# Altium schematic symbol library Resistors.SchLib: 12 symbols
Pins are listed as number, name and electrical type; pins without a type are passive.

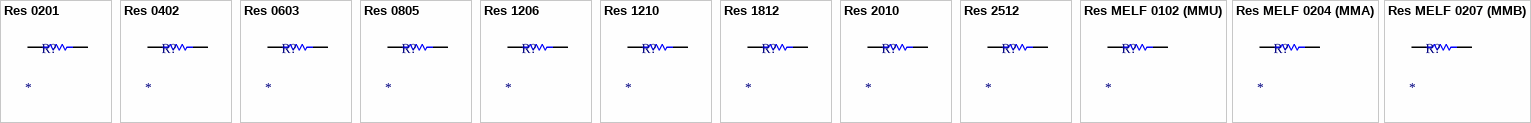
[diagram p0: symbols Res 0201 to Res MELF 0207 (MMB)]

## Res 0201
designator R?
Case-EIA: 0201; Case-Metric: 0603; Power: 0.05W; Technology: SMT; Value: *
footprint RES 0201 (0603) L (Chip Resistor, Body 0.6x0.3mm, IPC High Density)
footprint RES 0201 (0603) M (Chip Resistor, Body 0.6x0.3mm, IPC Low Density)
footprint RES 0201 (0603) N (Chip Resistor, Body 0.6x0.3mm, IPC Medium Density)
pins: 1, 2
1 alternate drawing of the same symbol

## Res 0402
designator R?
Case-EIA: 0402; Case-Metric: 1005; Power: 0.01W; Technology: SMT; Value: *
footprint RES 0402 (1005) L (Chip Resistor, Body 1.0x0.5mm, IPC High Density)
footprint RES 0402 (1005) M (Chip Resistor, Body 1.0x0.5mm, IPC Low Density)
footprint RES 0402 (1005) N (Chip Resistor, Body 1.0x0.5mm, IPC Medium Density)
pins: 1, 2
1 alternate drawing of the same symbol

## Res 0603
designator R?
Case-EIA: 0603; Case-Metric: 1608; Power: 0.1W; Technology: SMT; Value: *
footprint RES 0603 (1608) L (Chip Resistor, Body 1.6x0.8mm, IPC High Density)
footprint RES 0603 (1608) M (Chip Resistor, Body 1.6x0.8mm, IPC Low Density)
footprint RES 0603 (1608) N (Chip Resistor, Body 1.6x0.8mm, IPC Medium Density)
pins: 1, 2
1 alternate drawing of the same symbol

## Res 0805
designator R?
Case-EIA: 0805; Case-Metric: 2012; Power: 0.125W; Technology: SMT; Value: *
footprint RES 0805 (2012) N (Chip Resistor, Body 2.0x1.3mm, IPC Medium Density)
footprint RES 0805 (2012) M (Chip Resistor, Body 2.0x1.3mm, IPC Low Density)
footprint RES 0805 (2012) L (Chip Resistor, Body 2.0x1.3mm, IPC High Density)
pins: 1, 2
1 alternate drawing of the same symbol

## Res 1206
designator R?
Case-EIA: 1206; Case-Metric: 3216; Power: 0.25W; Technology: SMT; Value: *
footprint RES 1206 (3216) L (Chip Resistor, Body 3.2x1.6mm, IPC High Density)
footprint RES 1206 (3216) M (Chip Resistor, Body 3.2x1.6mm, IPC Low Density)
footprint RES 1206 (3216) N (Chip Resistor, Body 3.2x1.6mm, IPC Medium Density)
pins: 1, 2
1 alternate drawing of the same symbol

## Res 1210
designator R?
Case-EIA: 1210; Case-Metric: 3225; Power: 0.5W; Technology: SMT; Value: *
footprint RES 1210 (3225) L (Chip Resistor, Body 3.2x2.5mm, IPC High Density)
footprint RES 1210 (3225) M (Chip Resistor, Body 3.2x2.5mm, IPC Low Density)
footprint RES 1210 (3225) N (Chip Resistor, Body 3.2x2.5mm, IPC Medium Density)
pins: 1, 2
1 alternate drawing of the same symbol

## Res 1812
designator R?
Case-EIA: 1812; Case-Metric: 4532; Power: 0.75W; Technology: SMT; Value: *
footprint RES 1812 (4532) L (Chip Resistor, Body 4.5x3.2mm, IPC High Density)
footprint RES 1812 (4532) M (Chip Resistor, Body 4.5x3.2mm, IPC Low Density)
footprint RES 1812 (4532) N (Chip Resistor, Body 4.5x3.2mm, IPC Medium Density)
pins: 1, 2
1 alternate drawing of the same symbol

## Res 2010
designator R?
Case-EIA: 2010; Case-Metric: 5025; Power: 0.75W; Technology: SMT; Value: *
footprint RES 2010 (5025) L (Chip Resistor, Body 5.0x2.5mm, IPC High Density)
footprint RES 2010 (5025) M (Chip Resistor, Body 5.0x2.5mm, IPC Low Density)
footprint RES 2010 (5025) N (Chip Resistor, Body 5.0x2.5mm, IPC Medium Density)
pins: 1, 2
1 alternate drawing of the same symbol

## Res 2512
designator R?
Case-EIA: 2512; Case-Metric: 6332; Power: 1W; Technology: SMT; Value: *
footprint RES 2512 (6432) L (Chip Resistor, Body 6.4x3.2mm, IPC High Density)
footprint RES 2512 (6432) M (Chip Resistor, Body 6.4x3.2mm, IPC Low Density)
footprint RES 2512 (6432) N (Chip Resistor, Body 6.4x3.2mm, IPC Medium Density)
pins: 1, 2
1 alternate drawing of the same symbol

## Res MELF 0102 (MMU)
designator R?
Case-EIA: 0102; Case-Metric: 2211; Power: 0.2W; Technology: SMT; Value: *
footprint RES MELF 0102 R (MELF resistor 0102 reflow soldering)
footprint RES MELF 0102 W (MELF resistor 0102 wave soldering)
pins: 1, 2
1 alternate drawing of the same symbol

## Res MELF 0204 (MMA)
designator R?
Case-EIA: 0204; Case-Metric: 3614; Power: 0.25W; Technology: SMT; Value: *
footprint RES MELF 0204 W (MELF resistor 0204 wave soldering)
footprint RES MELF 0204 R (MELF resistor 0204 reflow soldering)
pins: 1, 2
1 alternate drawing of the same symbol

## Res MELF 0207 (MMB)
designator R?
Case-EIA: 0207; Case-Metric: 5822; Power: 0.4W; Technology: SMT; Value: *
footprint RES MELF 0207 R (MELF resistor 0207 reflow soldering)
footprint RES MELF 0207 W (MELF resistor 0207 wave soldering)
pins: 1, 2
1 alternate drawing of the same symbol